# EAGLE library part LU1T516-43-LF (library con-magjack)
8P8C (RJ-45) MagJack connector Can be replaced with LU1T041X
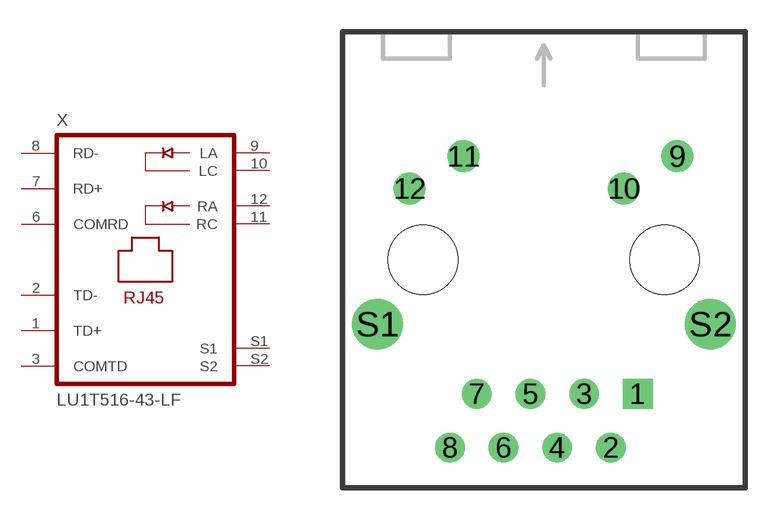
[diagram p3: symbol with the pads of PJ-J0; footprint PJ-J0]

Designator prefix X

## LU1T516-43-LF  [PJ-J0]
1  TD+
2  TD-
3  COMTD
6  COMRD
7  RD+
8  RD-
9  LA  pas
10  LC  pas
11  RC  pas
12  RA  pas
S1  S1  pas
S2  S2  pas

## Footprint PJ-J0 (pad centres in mm)
drill 0.9 square: 1 4.445,-6.35
drill 0.9 round: 2 3.175,-8.89; 3 1.905,-6.35; 4 0.635,-8.89; 5 -0.635,-6.35; 6 -1.905,-8.89; 7 -3.175,-6.35; 8 -4.445,-8.89
drill 1 round: 9 6.325,4.902; 10 3.785,3.378; 11 -3.81,4.902; 12 -6.35,3.378
drill 1.6 round: S1 -7.874,-3.048; S2 7.874,-3.048
hole 3.3 at -5.715,0
hole 3.3 at 5.715,0